# EAGLE library part AT91SAM7S (library IC_Embedded)
SAM7S series ARM-based Flash MCU Datasheet <http://ww1.microchip.com/downloads/en/DeviceDoc/doc6175.pdf>
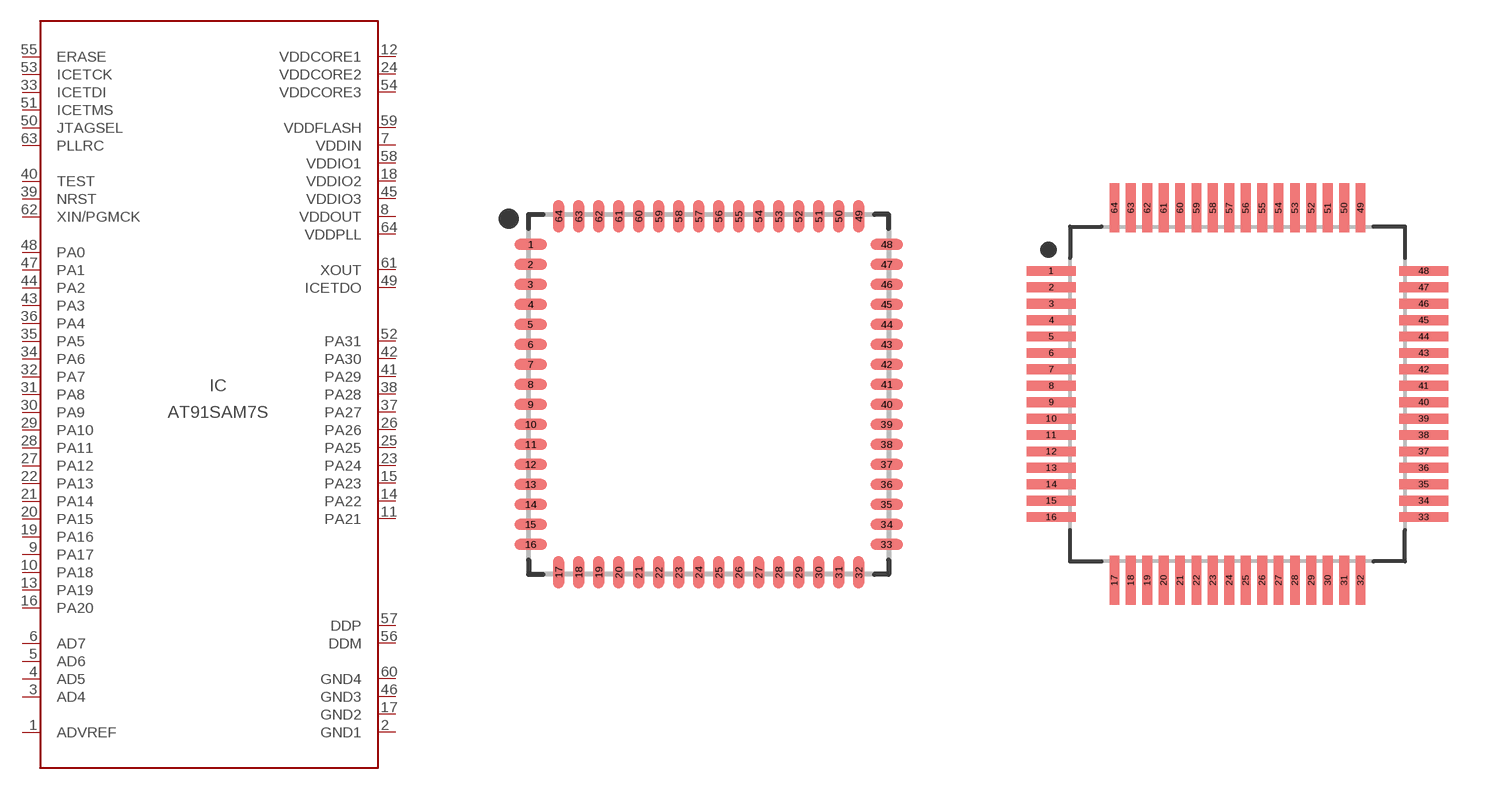
[diagram p29: symbol with the pads of QFN50P900X900X90-64N; footprints QFN50P900X900X90-64N, QFP50P1200X1200X160-64N]

Designator prefix IC

## AT91SAM7S128-MU_QFN (CATEGORY: IC_Embedded; DESCRIPTION: IC MCU 32BIT 128KB FLASH 64QFN; MANUFACTURER: Microchip Technology; MPN: AT91SAM7S128-MU; OPERATING_TEMP: -40°C to 85°C; ROHS_COMPLIANT: Yes; SERIES: SAM7S; SPEED: 55MHz; SUB-CATEGORY: Microcontroller; VALUE: AT91SAM7S), AT91SAM7S256-MU_QFN (CATEGORY: IC_Embedded; DESCRIPTION: IC MCU 32BIT 256KB FLASH 64QFN; MANUFACTURER: Microchip Technology; MPN: AT91SAM7S256-MU; OPERATING_TEMP: -40°C to 85°C; ROHS_COMPLIANT: Yes; SERIES: SAM7S; SPEED: 55MHz; SUB-CATEGORY: Microcontroller; VALUE: AT91SAM7S), AT91SAM7S321-MU_QFN (CATEGORY: IC_Embedded; DESCRIPTION: IC MCU 16/32BIT 32KB FLASH 64QFN; MANUFACTURER: Microchip Technology; MPN: AT91SAM7S321-MU; OPERATING_TEMP: -40°C to 85°C; ROHS_COMPLIANT: Yes; SERIES: SAM7S; SPEED: 55MHz; SUB-CATEGORY: Microcontroller; VALUE: AT91SAM7S), AT91SAM7S512-MU_QFN (CATEGORY: IC_Embedded; DESCRIPTION: IC MCU 32BIT 512KB FLASH 64QFN; MANUFACTURER: Microchip Technology; MPN: AT91SAM7S512-MU; OPERATING_TEMP: -40°C to 85°C; ROHS_COMPLIANT: Yes; SERIES: SAM7S; SPEED: 55MHz; SUB-CATEGORY: Microcontroller; VALUE: AT91SAM7S), AT91SAM7S512B-MU_QFN (CATEGORY: IC_Embedded; DESCRIPTION: IC MCU 32BIT 512KB FLASH 64QFN; MANUFACTURER: Microchip Technology; MPN: AT91SAM7S512B-MU; OPERATING_TEMP: -40°C to 85°C; ROHS_COMPLIANT: Yes; SERIES: SAM7S; SPEED: 55MHz; SUB-CATEGORY: Microcontroller; VALUE: AT91SAM7S), AT91SAM7S64B-MU_QFN (CATEGORY: IC_Embedded; DESCRIPTION: IC MCU 16/32BIT 64KB FLASH 64QFN; MANUFACTURER: Microchip Technology; MPN: AT91SAM7S64B-MU; OPERATING_TEMP: -40°C to 85°C; ROHS_COMPLIANT: Yes; SERIES: SAM7S; SPEED: 55MHz; SUB-CATEGORY: Microcontroller; VALUE: AT91SAM7S)  [QFN50P900X900X90-64N]
1  ADVREF
2  GND1  sup
3  AD4
4  AD5
5  AD6
6  AD7
7  VDDIN  pwr
8  VDDOUT  pwr
9  PA17
10  PA18
11  PA21
12  VDDCORE1  pwr
13  PA19
14  PA22
15  PA23
16  PA20
17  GND2  sup
18  VDDIO2  pwr
19  PA16
20  PA15
21  PA14
22  PA13
23  PA24
24  VDDCORE2  pwr
25  PA25
26  PA26
27  PA12
28  PA11
29  PA10
30  PA9
31  PA8
32  PA7
33  ICETDI  in
34  PA6
35  PA5
36  PA4
37  PA27
38  PA28
39  NRST  in
40  TEST  pas
41  PA29
42  PA30
43  PA3
44  PA2
45  VDDIO3  pwr
46  GND3  sup
47  PA1
48  PA0
49  ICETDO  out
50  JTAGSEL  in
51  ICETMS  in
52  PA31
53  ICETCK  in
54  VDDCORE3  pwr
55  ERASE  in
56  DDM  sup
57  DDP  sup
58  VDDIO1  pwr
59  VDDFLASH  pwr
60  GND4  sup
61  XOUT  out
62  XIN/PGMCK  in
63  PLLRC  in
64  VDDPLL  pwr

## AT91SAM7S128-AU-001_QFP (CATEGORY: IC_Embedded; DESCRIPTION: IC MCU 32BIT 128KB FLASH 64LQFP; MANUFACTURER: Microchip Technology; MPN: AT91SAM7S128-AU-001; OPERATING_TEMP: -40°C to 85°C; ROHS_COMPLIANT: Yes; SERIES: SAM7S; SPEED: 55MHz; SUB-CATEGORY: Microcontroller; VALUE: AT91SAM7S), AT91SAM7S161-AU_QFP (CATEGORY: IC_Embedded; DESCRIPTION: IC MCU 32BIT 16KB FLASH 64LQFP; MANUFACTURER: Microchip Technology; MPN: AT91SAM7S161-AU; OPERATING_TEMP: -40°C to 85°C; ROHS_COMPLIANT: Yes; SERIES: SAM7S; SPEED: 55MHz; SUB-CATEGORY: Microcontroller; VALUE: AT91SAM7S), AT91SAM7S256-AU-001_QFP (CATEGORY: IC_Embedded; DESCRIPTION: IC MCU 32BIT 256KB FLASH 64LQFP; MANUFACTURER: Microchip Technology; MPN: AT91SAM7S256-AU-001; OPERATING_TEMP: -40°C to 85°C; ROHS_COMPLIANT: Yes; SERIES: SAM7S; SPEED: 55MHz; SUB-CATEGORY: Microcontroller; VALUE: AT91SAM7S), AT91SAM7S321-AU_QFP (CATEGORY: IC_Embedded; DESCRIPTION: IC MCU 32BIT 32KB FLASH 64LQFP; MANUFACTURER: Microchip Technology; MPN: AT91SAM7S321-AU; OPERATING_TEMP: -40°C to 85°C; ROHS_COMPLIANT: Yes; SERIES: SAM7S; SPEED: 55MHz; SUB-CATEGORY: Microcontroller; VALUE: AT91SAM7S), AT91SAM7S512-AU_QFP (CATEGORY: IC_Embedded; DESCRIPTION: IC MCU 32BIT 512KB FLASH 64LQFP; MANUFACTURER: Microchip Technology; MPN: AT91SAM7S512-AU; OPERATING_TEMP: -40°C to 85°C; ROHS_COMPLIANT: Yes; SERIES: SAM7S; SPEED: 55MHz; SUB-CATEGORY: Microcontroller; VALUE: AT91SAM7S), AT91SAM7S512B-AU_QFP (CATEGORY: IC_Embedded; DESCRIPTION: IC MCU 32BIT 512KB FLASH 64LQFP; MANUFACTURER: Microchip Technology; MPN: AT91SAM7S512B-AU; OPERATING_TEMP: -40°C to 85°C; ROHS_COMPLIANT: Yes; SERIES: SAM7S; SPEED: 55MHz; SUB-CATEGORY: Microcontroller; VALUE: AT91SAM7S), AT91SAM7S64B-AU_QFP (CATEGORY: IC_Embedded; DESCRIPTION: IC MCU 32BIT 64KB FLASH 64LQFP; MANUFACTURER: Microchip Technology; MPN: AT91SAM7S64B-AU; OPERATING_TEMP: -40°C to 85°C; SERIES: SAM7S; SPEED: 55MHz; SUB-CATEGORY: Microcontroller; VALUE: AT91SAM7S)  [QFP50P1200X1200X160-64N]
Pads as for QFN50P900X900X90-64N

## Footprint QFN50P900X900X90-64N (pad centres in mm)
64-QFN, 0.50 mm pitch, 9.00 X 9.00 X 0.90 mm body 64-pin QFN package with 0.50 mm pitch with body size 9.00 X 9.00 X 0.90 mm
smd 0.811 x 0.273: 1 -4.451,3.75; 2 -4.451,3.25; 3 -4.451,2.75; 4 -4.451,2.25; 5 -4.451,1.75; 6 -4.451,1.25; 7 -4.451,0.75; 8 -4.451,0.25; 9 -4.451,-0.25; 10 -4.451,-0.75; 11 -4.451,-1.25; 12 -4.451,-1.75; 13 -4.451,-2.25; 14 -4.451,-2.75; 15 -4.451,-3.25; 16 -4.451,-3.75; 33 4.451,-3.75; 34 4.451,-3.25; 35 4.451,-2.75; 36 4.451,-2.25; 37 4.451,-1.75; 38 4.451,-1.25; 39 4.451,-0.75; 40 4.451,-0.25; 41 4.451,0.25; 42 4.451,0.75; 43 4.451,1.25; 44 4.451,1.75; 45 4.451,2.25; 46 4.451,2.75; 47 4.451,3.25; 48 4.451,3.75
smd 0.273 x 0.811: 17 -3.75,-4.451; 18 -3.25,-4.451; 19 -2.75,-4.451; 20 -2.25,-4.451; 21 -1.75,-4.451; 22 -1.25,-4.451; 23 -0.75,-4.451; 24 -0.25,-4.451; 25 0.25,-4.451; 26 0.75,-4.451; 27 1.25,-4.451; 28 1.75,-4.451; 29 2.25,-4.451; 30 2.75,-4.451; 31 3.25,-4.451; 32 3.75,-4.451; 49 3.75,4.451; 50 3.25,4.451; 51 2.75,4.451; 52 2.25,4.451; 53 1.75,4.451; 54 1.25,4.451; 55 0.75,4.451; 56 0.25,4.451; 57 -0.25,4.451; 58 -0.75,4.451; 59 -1.25,4.451; 60 -1.75,4.451; 61 -2.25,4.451; 62 -2.75,4.451; 63 -3.25,4.451; 64 -3.75,4.451

## Footprint QFP50P1200X1200X160-64N (pad centres in mm)
64-QFP, 0.50 mm pitch, 12.00 mm span, 10.00 X 10.00 X 1.60 mm body 64-pin QFP package with 0.50 mm pitch, 12.00 mm lead span1 X 12.00 mm lead span2 with body size 10.00 X 10.00 X 1.60 mm
smd 1.5 x 0.3: 1 -5.672,3.75; 2 -5.672,3.25; 3 -5.672,2.75; 4 -5.672,2.25; 5 -5.672,1.75; 6 -5.672,1.25; 7 -5.672,0.75; 8 -5.672,0.25; 9 -5.672,-0.25; 10 -5.672,-0.75; 11 -5.672,-1.25; 12 -5.672,-1.75; 13 -5.672,-2.25; 14 -5.672,-2.75; 15 -5.672,-3.25; 16 -5.672,-3.75; 33 5.672,-3.75; 34 5.672,-3.25; 35 5.672,-2.75; 36 5.672,-2.25; 37 5.672,-1.75; 38 5.672,-1.25; 39 5.672,-0.75; 40 5.672,-0.25; 41 5.672,0.25; 42 5.672,0.75; 43 5.672,1.25; 44 5.672,1.75; 45 5.672,2.25; 46 5.672,2.75; 47 5.672,3.25; 48 5.672,3.75
smd 0.3 x 1.5: 17 -3.75,-5.672; 18 -3.25,-5.672; 19 -2.75,-5.672; 20 -2.25,-5.672; 21 -1.75,-5.672; 22 -1.25,-5.672; 23 -0.75,-5.672; 24 -0.25,-5.672; 25 0.25,-5.672; 26 0.75,-5.672; 27 1.25,-5.672; 28 1.75,-5.672; 29 2.25,-5.672; 30 2.75,-5.672; 31 3.25,-5.672; 32 3.75,-5.672; 49 3.75,5.672; 50 3.25,5.672; 51 2.75,5.672; 52 2.25,5.672; 53 1.75,5.672; 54 1.25,5.672; 55 0.75,5.672; 56 0.25,5.672; 57 -0.25,5.672; 58 -0.75,5.672; 59 -1.25,5.672; 60 -1.75,5.672; 61 -2.25,5.672; 62 -2.75,5.672; 63 -3.25,5.672; 64 -3.75,5.672